# Altium integrated library TIP41C.IntLib: 1 symbol
Pins are listed as number, name and electrical type; pins without a type are passive.

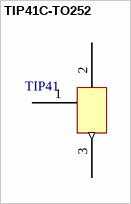
[diagram p0: symbol TIP41C-TO252]

## TIP41C-TO252
designator TIP41
footprint SC_TO-252AA (D-PAK)
pins: 1, 2 (oc), 3 (out)